# Altium footprint library 004-Connector.PcbLib: 12 footprints
Each footprint in its own frame and in the unit in brackets; x right, y up, seen from the top. Pads: shape width x height; smd on the part's side, far side on the other; paste and mask are expansions set on the pad; w line width, h text height; cw(c..) or ccw(c..) is an arc to the next point about the centre after c.
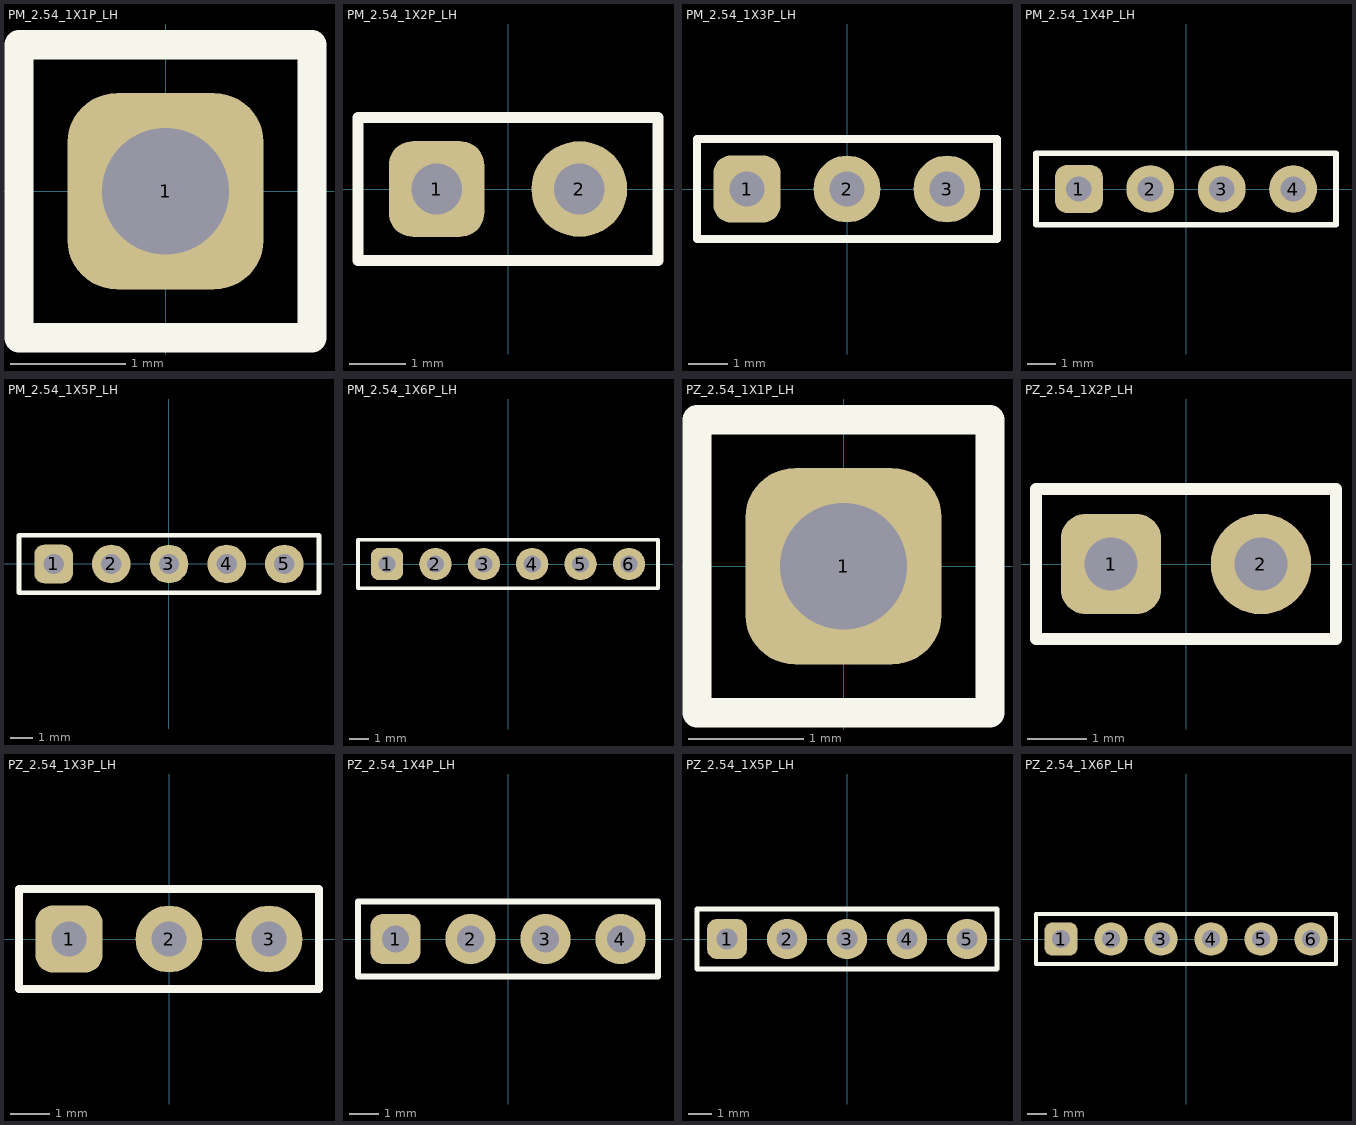
[diagram p0: the footprints below, top view; thin cyan lines are the x and y axes]

## PM_2.54_1X1P_LH [mm] "单排排母-间距2.54mm-1X1P-直插"
pads (1):
  rrect50% 1.7x1.7 hole 1.1: 1(0,0)
Top Overlay:
  lines w0.254: -1.27,-1.27 1.27,-1.27 1.27,1.27 -1.27,1.27 -1.27,-1.27
Mechanical 15:
  region: 1.33,1.25 1.329,1.274 1.294,1.309 1.246,1.309 1.211,1.274 1.21,1.25 1.211,1.225 1.246,1.191 1.294,1.191 1.329,1.225 1.33,1.25
  region: -0.325,-0.325 -0.325,0.325 0.325,0.325 0.325,-0.325
  lines w0.051: -1.27,-1.25 -1.27,1.25 1.27,1.25 1.27,-1.25 -1.27,-1.25
3D body "PM_2.54_1X1P_LH.step": height 8.5, standoff -3, extent -1.27,-1.27 1.27,1.27

## PM_2.54_1X2P_LH [mm] "单排排母-间距2.54mm-1X2P-直插"
pads (2):
  rrect50% 1.7x1.7 hole 0.9: 1(-1.27,0)
  round 1.7 hole 0.9: 2(1.27,0)
Top Overlay:
  lines w0.2: -2.667,-1.27 -2.667,1.27 2.667,1.27 2.667,-1.27 -2.667,-1.27
3D body "PM_2.54_1X2P_LH.step": height 8.5, standoff -3.3, extent -2.74,-1.25 2.75,1.25

## PM_2.54_1X3P_LH [mm] "单排排母-间距2.54mm-1X3P-直插"
pads (3):
  rrect50% 1.7x1.7 hole 0.9: 1(-2.54,0)
  round 1.7 hole 0.9: 2(0,0) 3(2.54,0)
Top Overlay:
  lines w0.2: -3.81,-1.27 -3.81,1.27 3.81,1.27 3.81,-1.27 -3.81,-1.27
3D body "PM_2.54_1X3P_LH.step": height 8.5, standoff -3, extent -3.81,-1.27 3.82,1.27

## PM_2.54_1X4P_LH [mm] "单排排母-间距2.54mm-1X4P-直插"
pads (4):
  rrect50% 1.7x1.7 hole 0.9: 1(-3.81,0)
  round 1.7 hole 0.9: 2(-1.27,0) 3(1.27,0) 4(3.81,0)
Top Overlay:
  lines w0.2: -5.334,-1.27 5.334,-1.27 5.334,1.27 -5.334,1.27 -5.334,-1.27
3D body "PM_2.54_1X4P_LH.step": height 8.5, standoff -3, extent -5.33,-1.25 5.33,1.25

## PM_2.54_1X5P_LH [mm] "单排排母-间距2.54mm-1X5P-直插"
pads (5):
  rrect50% 1.7x1.7 hole 0.9: 1(-5.08,0)
  round 1.7 hole 0.9: 2(-2.54,0) 3(0,0) 4(2.54,0) 5(5.08,0)
Top Overlay:
  lines w0.2: -6.604,-1.27 6.604,-1.27 6.604,1.27 -6.604,1.27 -6.604,-1.27
3D body "PM_2.54_1X5P_LH.step": height 8.5, standoff -3.15, extent -6.6,-1.25 6.6,1.25

## PM_2.54_1X6P_LH [mm] "单排排母-间距2.54mm-1X5P-直插"
pads (6):
  rrect50% 1.7x1.7 hole 0.9: 1(-6.35,0)
  round 1.7 hole 0.9: 2(-3.81,0) 3(-1.27,0) 4(1.27,0) 5(3.81,0) 6(6.35,0)
Top Overlay:
  lines w0.2: -7.874,-1.27 -7.874,1.27 7.874,1.27 7.874,-1.27 -7.874,-1.27
3D body "PM_2.54_1X6P_LH.step": height 8.5, standoff -3.2, extent -7.87,-1.2 7.88,1.2

## PZ_2.54_1X1P_LH [mm] "单排排针-间距2.54mm-1X1P-直插"
pads (1):
  rrect50% 1.7x1.7 hole 1.1: 1(0,0)
Top Overlay:
  lines w0.254: -1.27,-1.27 -1.27,1.27 1.27,1.27 1.27,-1.27 -1.27,-1.27
Mechanical 15:
  region: -0.325,-0.325 -0.325,0.325 0.325,0.325 0.325,-0.325
  region: 1.33,1.25 1.329,1.274 1.294,1.309 1.246,1.309 1.211,1.274 1.21,1.25 1.211,1.225 1.246,1.191 1.294,1.191 1.329,1.225 1.33,1.25
  lines w0.051: -1.27,-1.25 1.27,-1.25 1.27,1.25 -1.27,1.25 -1.27,-1.25
3D body "PZ_2.54_1X1P_LH.step": height 8.5, standoff -3, extent -1.27,-1.27 1.28,1.27

## PZ_2.54_1X2P_LH [mm] "单排排针-间距2.54mm-1X2P-直插"
pads (2):
  rrect50% 1.7x1.7 hole 0.9: 1(-1.27,0)
  round 1.7 hole 0.9: 2(1.27,0)
Top Overlay:
  lines w0.2: -2.54,-1.27 -2.54,1.27 2.54,1.27 2.54,-1.27 -2.54,-1.27
3D body "PZ_2.54_1X2P_LH.step": height 8.5, standoff -3, extent -2.54,-1.27 2.55,1.27

## PZ_2.54_1X3P_LH [mm] "单排排针-间距2.54mm-1X3P-直插"
pads (3):
  rrect50% 1.7x1.7 hole 0.9: 1(-2.54,0)
  round 1.7 hole 0.9: 2(0,0) 3(2.54,0)
Top Overlay:
  lines w0.2: -3.81,-1.27 3.81,-1.27 3.81,1.27 -3.81,1.27 -3.81,-1.27
3D body "PZ_2.54_1X3P_LH.step": height 8.54, standoff -3, extent -3.81,-1.27 3.82,1.27

## PZ_2.54_1X4P_LH [mm] "单排排针-间距2.54mm-1X4P-直插"
pads (4):
  rrect50% 1.7x1.7 hole 0.9: 1(-3.81,0)
  round 1.7 hole 0.9: 2(-1.27,0) 3(1.27,0) 4(3.81,0)
Top Overlay:
  lines w0.2: -5.08,-1.27 -5.08,1.27 5.08,1.27 5.08,-1.27 -5.08,-1.27
3D body "PZ_2.54_1X4P_LH.step": height 8.54, standoff -3, extent -5.08,-1.33 5.09,1.33

## PZ_2.54_1X5P_LH [mm] "单排排针-间距2.54mm-1X5P-直插"
pads (5):
  rrect50% 1.7x1.7 hole 0.9: 1(-5.08,0)
  round 1.7 hole 0.9: 2(-2.54,0) 3(0,0) 4(2.54,0) 5(5.08,0)
Top Overlay:
  lines w0.2: -6.35,-1.27 -6.35,1.27 6.35,1.27 6.35,-1.27 -6.35,-1.27
3D body "PZ_2.54_1X5P_LH.step": height 8.54, standoff -3, extent -6.35,-1.27 6.36,1.27

## PZ_2.54_1X6P_LH [mm] "单排排针-间距2.54mm-1X6P-直插"
pads (6):
  rrect50% 1.7x1.7 hole 0.9: 1(-6.35,0)
  round 1.7 hole 0.9: 2(-3.81,0) 3(-1.27,0) 4(1.27,0) 5(3.81,0) 6(6.35,0)
Top Overlay:
  lines w0.2: -7.62,-1.27 7.62,-1.27 7.62,1.27 -7.62,1.27 -7.62,-1.27
3D body "PZ_2.54_1X6P_LH.step": height 8.5, standoff -3, extent -7.62,-1.27 7.63,1.27